# EAGLE library part A3940/41 (library allegro)
Combined symbol for A3940 and A3941. The pins with different pin functions has the following naming convention: <A3940 name>/<A3941 name>
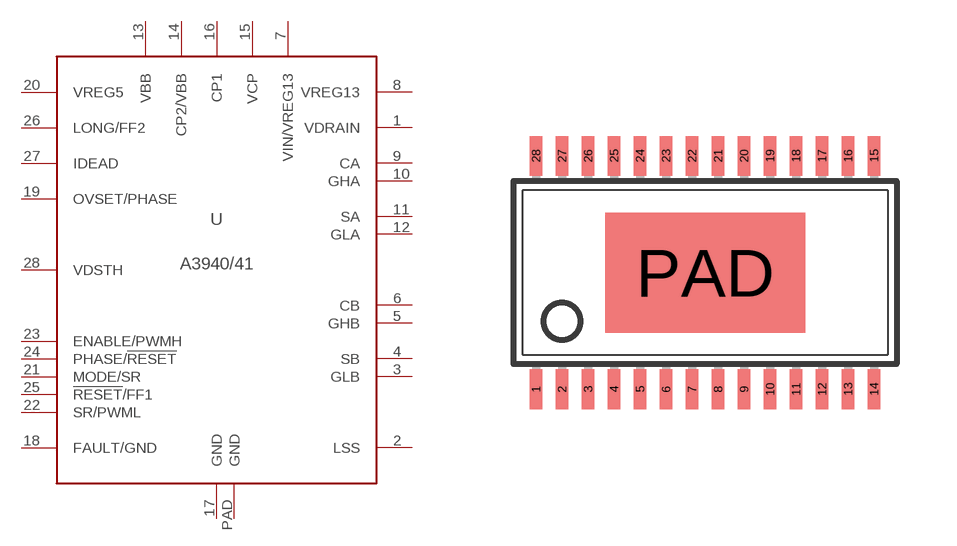
[diagram p15: symbol with the pads of TSSOP28-PAD; footprint TSSOP28-PAD]

Designator prefix U

## A3940/41  [TSSOP28-PAD]
1  VDRAIN  pwr
2  LSS  pwr
3  GLB  out
4  SB  out
5  GHB  out
6  CB  out
7  VIN/VREG13  pwr
8  VREG13  out
9  CA  out
10  GHA  out
11  SA  out
12  GLA  out
13  VBB  pwr
14  CP2/VBB
15  VCP
16  CP1
17  GND  pwr
18  FAULT/GND  oc
19  OVSET/PHASE  in
20  VREG5  pwr
21  MODE/SR  in
22  SR/PWML  in
23  ENABLE/PWMH  in
24  PHASE/!RESET  in
25  !RESET!/FF1  in
26  LONG/FF2  in
27  IDEAD  in
28  VDSTH  in
PAD  GND  pwr

## Footprint TSSOP28-PAD (pad centres in mm)
28-pin Thin Shrink Small Outline Package with Exposed Thermal Pad
smd 0.305 x 0.991: 1 -4.225,-2.918; 2 -3.575,-2.918; 3 -2.925,-2.918; 4 -2.275,-2.918; 5 -1.625,-2.918; 6 -0.975,-2.918; 7 -0.325,-2.918; 8 0.325,-2.918; 9 0.975,-2.918; 10 1.625,-2.918; 11 2.275,-2.918; 12 2.925,-2.918; 13 3.575,-2.918; 14 4.225,-2.918; 15 4.225,2.918; 16 3.575,2.918; 17 2.925,2.918; 18 2.275,2.918; 19 1.625,2.918; 20 0.975,2.918; 21 0.325,2.918; 22 -0.325,2.918; 23 -0.975,2.918; 24 -1.625,2.918; 25 -2.275,2.918; 26 -2.925,2.918; 27 -3.575,2.918; 28 -4.225,2.918
smd 5 x 3: PAD 0,0